# EAGLE library part RS-485-MODULE (library RS485Module)
RS-485 Module without external EN pin, with TVS diodes and Fuses
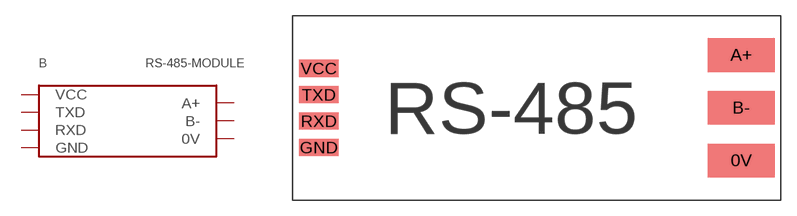
[diagram p0: symbol with the pads of RS-485-MODULE; footprint RS-485-MODULE]

Designator prefix B

## RS-485-MODULE  [RS-485-MODULE]
0V  0V
A+  A+
B-  B-
GND  GND  pwr
RXD  RXD  out
TXD  TXD  in
VCC  VCC  pwr

## Footprint RS-485-MODULE (pad centres in mm)
footprint RS-485 Module without external EN pin
smd 6.452 x 3.251: 0V 20.32,-5.08; A+ 20.32,5.08; B- 20.32,0
smd 3.81 x 1.651: GND -20.32,-3.81; RXD -20.32,-1.27; TXD -20.32,1.27; VCC -20.32,3.81